# EAGLE library part GS406SMD (library Jim_RF_Retired)
50 Channel GS406 Helical GPS Receiver - SMD Connector. The Mating SMD SPECIAL is called SPECIAL for a reason. This package was only made in order to make a dummy gs407 PCB with mating connector (used for testing). sku: GPS-09079
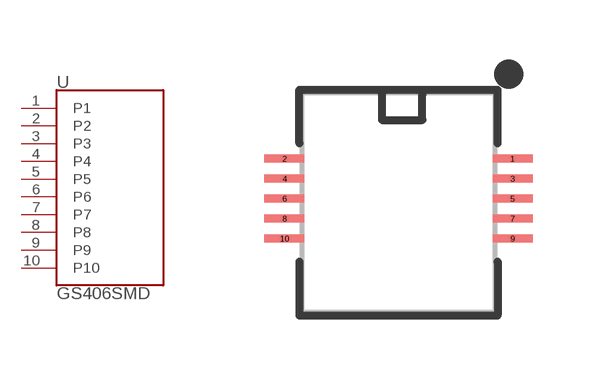
[diagram p39: symbol with the pads of 10-PIN-SOCKET-0.5MM; footprint 10-PIN-SOCKET-0.5MM]

Designator prefix U

## GS406SMDSOCKET  [10-PIN-SOCKET-0.5MM]
1  P1
2  P2
3  P3
4  P4
5  P5
6  P6
7  P7
8  P8
9  P9
10  P10

## Footprint 10-PIN-SOCKET-0.5MM (pad centres in mm)
10-Pin SMD Socket for GS406/407 50 Channel GS406 Helical GPS Receiver - SMD Connector sku: GPS-09079 Datasheet <https://www.sparkfun.com/datasheets/GPS/Modules/SPK-GPS-GS406-1R.pdf>
smd 1 x 0.2: 1 2.85,1.09; 2 -2.85,1.09; 3 2.85,0.59; 4 -2.85,0.59; 5 2.85,0.09; 6 -2.85,0.09; 7 2.85,-0.41; 8 -2.85,-0.41; 9 2.85,-0.91; 10 -2.85,-0.91